# Altium integrated library Analog Devices Data Converters Analog-to-Digital Converters.IntLib: 2404 symbols (part 228 of 346)
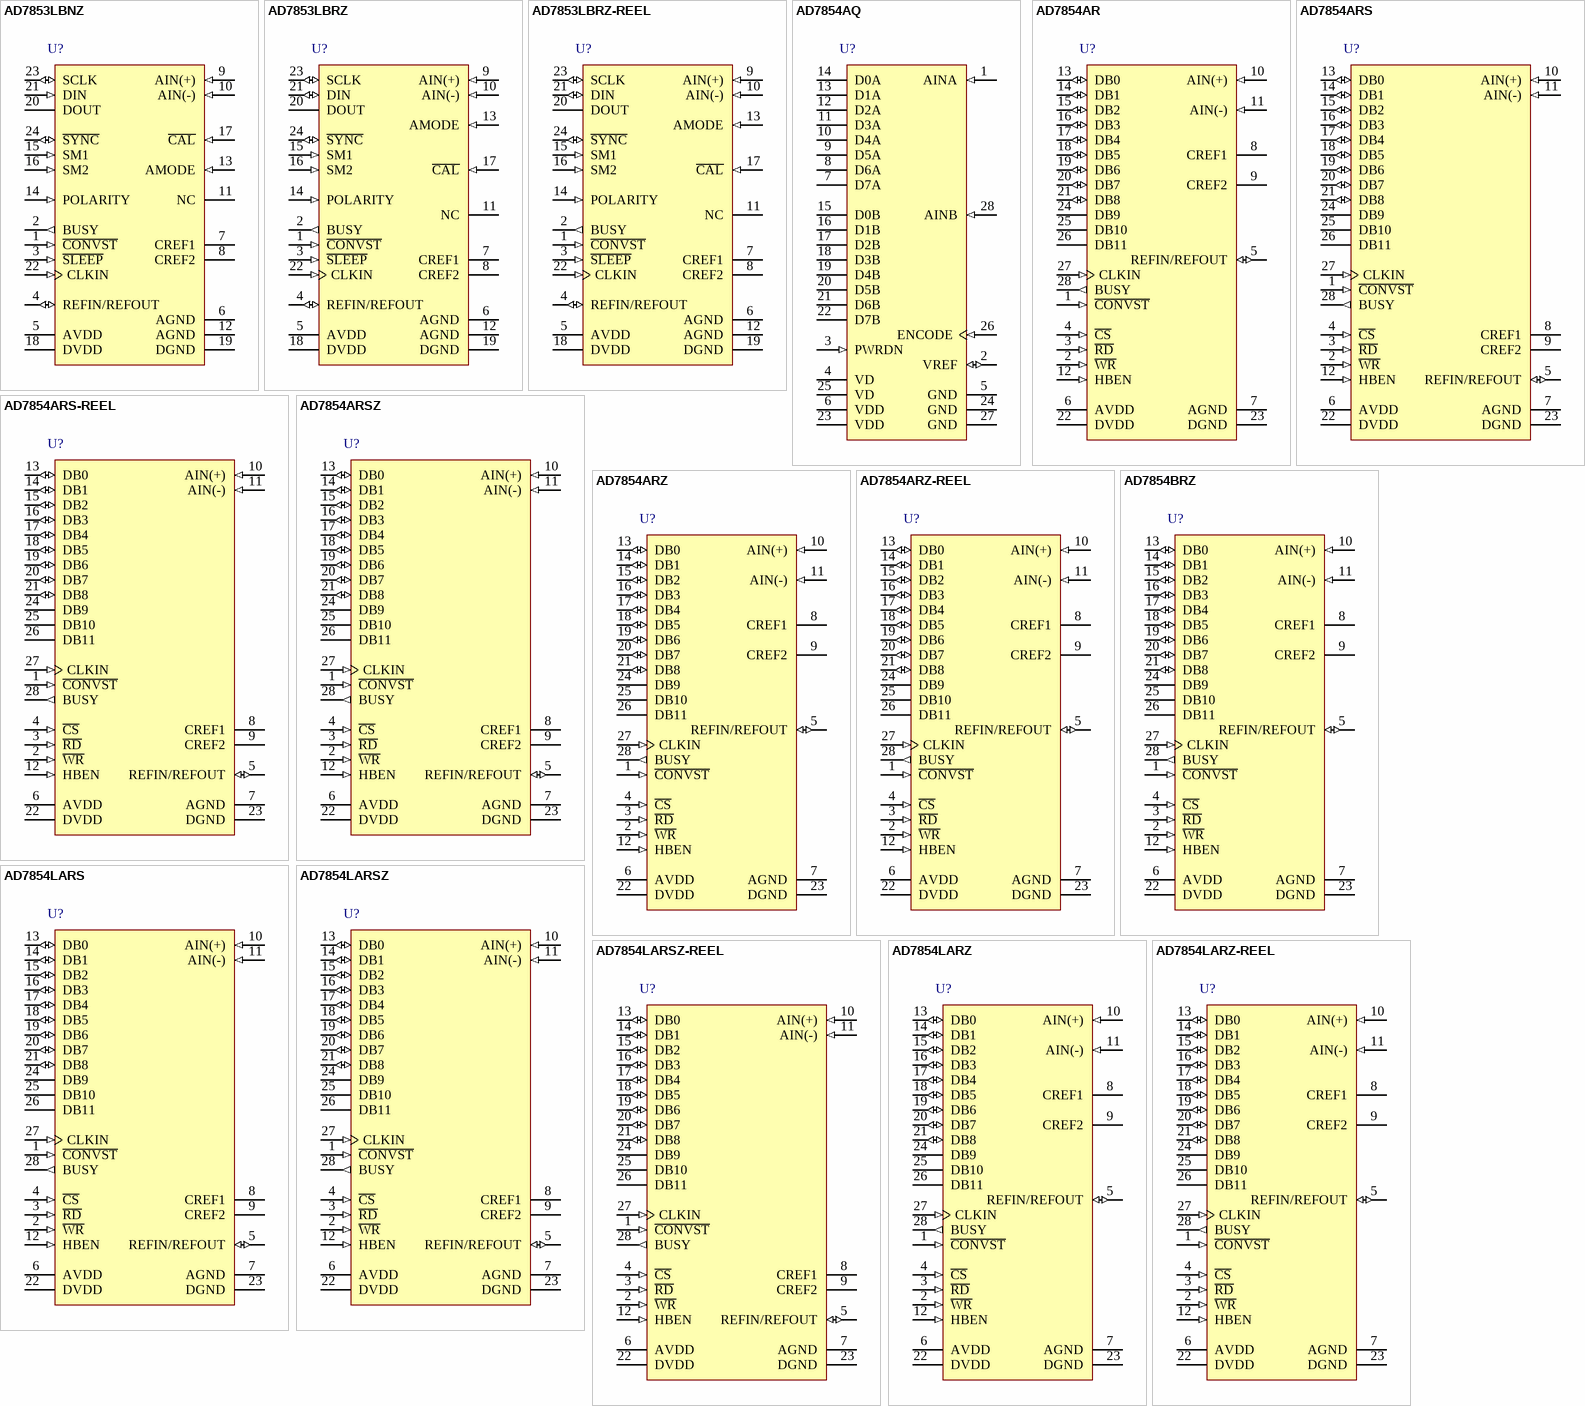
[diagram p277: symbols AD7853LBNZ to AD7854LARZ-REEL]

## AD7853LBNZ
designator U?
Single 12-Bit Sampling Analog-to-Digital Converter with Serial, SPI Interface, Single Supply, 3 to 5.5 V, 100KSPS, 0 to +70 degC, N-24-1, Pb-Free, Tube; Generic Part Number: AD7853L; Manufacturer: Analog Devices; PartNumber: AD7853LBNZ; Resolution (Bits): 12; Channels: 1; Throughput Rate (SPS): 100K; Interface: Ser, SPI; DatasheetVersion: Rev.B; PackageVersion: 071006-A; PackageReference: N-24-1; PackageDescription: 24-Lead Plastic Dual In-Line Package [PDIP] Narrow Body; Supplier 1: Digi-Key; Supplier Part Number 1: AD7853LBNZ-ND; Supplier 2: Mouser; Supplier Part Number 2: 584-AD7853LBNZ; RoHS: Y; Packing: Tube; Mounting Technology: Through-hole; Code_JEDEC: MS-001; ComponentLink1Description: Manufacturer URL; ComponentLink1URL: http://www.analog.com/en/index.html; ComponentLink2Description: Datasheet; ComponentLink2URL: http://www.analog.com/static/imported-files/data_sheets/AD7853_7853L.pdf; ComponentLink3Description: Package Specification; ComponentLink3URL: http://www.analog.com/static/imported-files/packages/50726455539629N_24_1.pdf; ComponentLink4Description: Product URL; ComponentLink4URL: http://www.analog.com/en/analog-to-digital-converters/ad-converters/ad7853/products/product.html
footprint N-24-1 (DIP, 24-Leads, Row Spacing 7.62mm, Pitch 2.54mm, Body 31.9x6.6mm)
pins: 1 ~{CONVST} (in) "Convert Start. Logic Input. A low to high transition on this input puts the track/hold into its hold mode and starts conversion. When this input is not used, it should be tied to DVDD.", 2 BUSY (out) "Busy Output. The busy output is triggered high by the falling edge of C\O\N\V\S\T\ or rising edge of C\A\L\, and remains high until conversion is completed. BUSY is also used to indicate when the AD7853/AD7853L has completed (See Datasheet)", 3 ~{SLEEP} (in) "Sleep Input/Low Power Mode. A Logic 0 initiates a sleep and all circuitry is powered down including the internal voltage reference provided there is no conversion or calibration being performed. Calibration data is retained. (See Datasheet)", 4 REFIN/REFOUT (io) "Reference Input/Output. This pin is connected to the internal reference through a series resistor and is the reference source for the analog-to-digital converter. The nominal reference voltage is 2.5 V and this appears at (See Datasheet)", 5 AVDD (power) "Analog Positive Supply Voltage, +3.0 V to +5.5 V.", 6 AGND (power) "Analog Ground. Ground reference for track/hold, reference and DAC.", 7 CREF1 "Reference Capacitor (0.1 uF multilayer ceramic). This external capacitor is used as a charge source for the internal DAC. The capacitor should be tied between the pin and AGND.", 8 CREF2 "Reference Capacitor (0.01 uF ceramic disc). This external capacitor is used in conjunction with the on-chip reference. The capacitor should be tied between the pin and AGND.", 9 AIN(+) (in) "Analog Input. Positive input of the pseudo-differential analog input. Cannot go below AGND or above AVDD at any time, and cannot go below AIN(-) when the unipolar input range is selected.", 10 AIN(-) (in) "Analog Input. Negative input of the pseudo-differential analog input. Cannot go below AGND or above AVDD at any time.", 11 NC "No Connect Pin.", 12 AGND (power) "Analog Ground. Ground reference for track/hold, reference and DAC.", 13 AMODE (in) "Analog Mode Pin. This pin allows two different analog input ranges to be selected. A Logic 0 selects range 0 to VREF (i.e., AIN(+) - AIN(-) = 0 to VREF). In this case AIN(+) cannot go below AIN(-) and AIN(-) cannot go below (See Datasheet)", 14 POLARITY (in) "Serial Clock Polarity. This pin determines the active edge of the serial clock (SCLK). Toggling this pin will reverse the active edge of the serial clock (SCLK). A Logic 1 means that the serial clock (SCLK) idles high and a (See Datasheet)", 15 SM1 (in) "Serial Mode Select Pin. This pin is used in conjunction with the SM2 pin to give different modes of operation as described in Table X.", 16 SM2 (in) "Serial Mode Select Pin. This pin is used in conjunction with the SM1 pin to give different modes of operation as described in Table X.", 17 ~{CAL} (in) "Calibration Input. This pin has an internal pull-up current source of 0.15 mA. A Logic 0 on this pin resets all calibration control logic and initiates a calibration on its rising edge. There is the option of connecting a 10 (See Datasheet)", 18 DVDD (power) "Digital Supply Voltage, +3.0 V to +5.5 V.", 19 DGND (power) "Digital Ground. Ground reference point for digital circuitry.", 20 DOUT (hiz) "Serial Data Output. The data output is supplied to this pin as a 16-bit serial word.", 21 DIN (in) "Serial Data Input. The data to be written is applied to this pin in serial form (16-bit word). This pin can act as an input pin or as a I/O pin depending on the serial interface mode the part is in (see Table X).", 22 CLKIN (in) "Master Clock Signal for the device (4 MHz for AD7853, 1.8 MHz for AD7853L). Sets the conversion and calibration times.", 23 SCLK (io) "Serial Port Clock. Logic input/output. The SCLK pin is configured as an input or output, dependent on the type of serial data transmission (self-clocking or external-clocking) that has been selected by the SM1 and SM2 pins. (See Datasheet)", 24 ~{SYNC} (io) "This pin can be an input level triggered active low (similar to a chip select in one case and to a frame sync in the other) or an output (similar to a frame sync) pin depending on SM1, SM2 (see Table X)."

## AD7853LBRZ
designator U?
Single 12-Bit Sampling Analog-to-Digital Converter with Serial, SPI Interface, Single Supply, 3 to 5.5 V, 100KSPS, 0 to +70 degC, RW-24, Pb-Free, Tube; Generic Part Number: AD7853L; Manufacturer: Analog Devices; PartNumber: AD7853LBRZ; Resolution (Bits): 12; Channels: 1; Throughput Rate (SPS): 100K; Interface: Ser, SPI; DatasheetVersion: Rev.B; PackageVersion: 060706-A; PackageReference: RW-24; PackageDescription: 24-Lead Standard Small Outline Package [SOIC_W]; Supplier 1: Digi-Key; Supplier Part Number 1: AD7853LBRZ-ND; RoHS: Y; Packing: Tube; Mounting Technology: Surface Mount; Code_JEDEC: MS-013-AD; ComponentLink1Description: Manufacturer URL; ComponentLink1URL: http://www.analog.com/en/index.html; ComponentLink2Description: Datasheet; ComponentLink2URL: http://www.analog.com/static/imported-files/data_sheets/AD7853_7853L.pdf; ComponentLink3Description: Package Specification; ComponentLink3URL: http://www.analog.com/static/imported-files/packages/33665150946139RW_24.pdf; ComponentLink4Description: Product URL; ComponentLink4URL: http://www.analog.com/en/analog-to-digital-converters/ad-converters/ad7853/products/product.html
footprint RW-24_N (SOIC, 24-Leads, Body 15.4x7.5mm, Pitch 1.27mm, IPC Medium Density)
footprint RW-24_L (SOIC, 24-Leads, Body 15.4x7.5mm, Pitch 1.27mm, IPC High Density)
footprint RW-24_M (SOIC, 24-Leads, Body 15.4x7.5mm, Pitch 1.27mm, IPC Low Density)
pins: 1 ~{CONVST} (in) "Convert Start. Logic Input. A low to high transition on this input puts the track/hold into its hold mode and starts conversion. When this input is not used, it should be tied to DVDD.", 2 BUSY (out) "Busy Output. The busy output is triggered high by the falling edge of C\O\N\V\S\T\ or rising edge of C\A\L\, and remains high until conversion is completed. BUSY is also used to indicate when the AD7853/AD7853L has completed (See Datasheet)", 3 ~{SLEEP} (in) "Sleep Input/Low Power Mode. A Logic 0 initiates a sleep and all circuitry is powered down including the internal voltage reference provided there is no conversion or calibration being performed. Calibration data is retained. (See Datasheet)", 4 REFIN/REFOUT (io) "Reference Input/Output. This pin is connected to the internal reference through a series resistor and is the reference source for the analog-to-digital converter. The nominal reference voltage is 2.5 V and this appears at (See Datasheet)", 5 AVDD (power) "Analog Positive Supply Voltage, +3.0 V to +5.5 V.", 6 AGND (power) "Analog Ground. Ground reference for track/hold, reference and DAC.", 7 CREF1 "Reference Capacitor (0.1 uF multilayer ceramic). This external capacitor is used as a charge source for the internal DAC. The capacitor should be tied between the pin and AGND.", 8 CREF2 "Reference Capacitor (0.01 uF ceramic disc). This external capacitor is used in conjunction with the on-chip reference. The capacitor should be tied between the pin and AGND.", 9 AIN(+) (in) "Analog Input. Positive input of the pseudo-differential analog input. Cannot go below AGND or above AVDD at any time, and cannot go below AIN(-) when the unipolar input range is selected.", 10 AIN(-) (in) "Analog Input. Negative input of the pseudo-differential analog input. Cannot go below AGND or above AVDD at any time.", 11 NC "No Connect Pin.", 12 AGND (power) "Analog Ground. Ground reference for track/hold, reference and DAC.", 13 AMODE (in) "Analog Mode Pin. This pin allows two different analog input ranges to be selected. A Logic 0 selects range 0 to VREF (i.e., AIN(+) - AIN(-) = 0 to VREF). In this case AIN(+) cannot go below AIN(-) and AIN(-) cannot go below (See Datasheet)", 14 POLARITY (in) "Serial Clock Polarity. This pin determines the active edge of the serial clock (SCLK). Toggling this pin will reverse the active edge of the serial clock (SCLK). A Logic 1 means that the serial clock (SCLK) idles high and a (See Datasheet)", 15 SM1 (in) "Serial Mode Select Pin. This pin is used in conjunction with the SM2 pin to give different modes of operation as described in Table X.", 16 SM2 (in) "Serial Mode Select Pin. This pin is used in conjunction with the SM1 pin to give different modes of operation as described in Table X.", 17 ~{CAL} (in) "Calibration Input. This pin has an internal pull-up current source of 0.15 uA. A Logic 0 on this pin resets all calibration control logic and initiates a calibration on its rising edge. There is the option of connecting a 10 (See Datasheet)", 18 DVDD (power) "Digital Supply Voltage, +3.0 V to +5.5 V.", 19 DGND (power) "Digital Ground. Ground reference point for digital circuitry.", 20 DOUT (hiz) "Serial Data Output. The data output is supplied to this pin as a 16-bit serial word.", 21 DIN (io) "Serial Data Input. The data to be written is applied to this pin in serial form (16-bit word). This pin can act as an input pin or as a I/O pin depending on the serial interface mode the part is in (see Table X).", 22 CLKIN (in) "Master Clock Signal for the device (4 MHz for AD7853, 1.8 MHz for AD7853L). Sets the conversion and calibration times.", 23 SCLK (io) "Serial Port Clock. Logic input/output. The SCLK pin is configured as an input or output, dependent on the type of serial data transmission (self-clocking or external-clocking) that has been selected by the SM1 and SM2 pins. (See Datasheet)", 24 ~{SYNC} (io) "This pin can be an input level triggered active low (similar to a chip select in one case and to a frame sync in the other) or an output (similar to a frame sync) pin depending on SM1, SM2 (see Table X)."

## AD7853LBRZ-REEL
designator U?
Single 12-Bit Sampling Analog-to-Digital Converter with Serial, SPI Interface, Single Supply, 3 to 5.5 V, 100KSPS, 0 to +70 degC, RW-24, Pb-Free, Reel; Generic Part Number: AD7853L; Manufacturer: Analog Devices; PartNumber: AD7853LBRZ-REEL; Resolution (Bits): 12; Channels: 1; Throughput Rate (SPS): 100K; Interface: Ser, SPI; DatasheetVersion: Rev.B; PackageVersion: 060706-A; PackageReference: RW-24; PackageDescription: 24-Lead Standard Small Outline Package [SOIC_W]; Supplier 1: Digi-Key; Supplier Part Number 1: AD7853LBRZ-REELTR-ND; Supplier 2: Digi-Key; Supplier Part Number 2: AD7853LBRZ-REELCT-ND; Supplier 3: Digi-Key; Supplier Part Number 3: AD7853LBRZ-REELDKR-ND; Supplier 4: Mouser; Supplier Part Number 4: 584-AD7853LBRZ-R; RoHS: Y; Packing: Reel; Mounting Technology: Surface Mount; Code_JEDEC: MS-013-AD; ComponentLink1Description: Manufacturer URL; ComponentLink1URL: http://www.analog.com/en/index.html; ComponentLink2Description: Datasheet; ComponentLink2URL: http://www.analog.com/static/imported-files/data_sheets/AD7853_7853L.pdf; ComponentLink3Description: Package Specification; ComponentLink3URL: http://www.analog.com/static/imported-files/packages/33665150946139RW_24.pdf; ComponentLink4Description: Product URL; ComponentLink4URL: http://www.analog.com/en/analog-to-digital-converters/ad-converters/ad7853/products/product.html
footprint RW-24_N (SOIC, 24-Leads, Body 15.4x7.5mm, Pitch 1.27mm, IPC Medium Density)
footprint RW-24_L (SOIC, 24-Leads, Body 15.4x7.5mm, Pitch 1.27mm, IPC High Density)
footprint RW-24_M (SOIC, 24-Leads, Body 15.4x7.5mm, Pitch 1.27mm, IPC Low Density)
pins: 1 ~{CONVST} (in) "Convert Start. Logic Input. A low to high transition on this input puts the track/hold into its hold mode and starts conversion. When this input is not used, it should be tied to DVDD.", 2 BUSY (out) "Busy Output. The busy output is triggered high by the falling edge of C\O\N\V\S\T\ or rising edge of C\A\L\, and remains high until conversion is completed. BUSY is also used to indicate when the AD7853/AD7853L has completed (See Datasheet)", 3 ~{SLEEP} (in) "Sleep Input/Low Power Mode. A Logic 0 initiates a sleep and all circuitry is powered down including the internal voltage reference provided there is no conversion or calibration being performed. Calibration data is retained. (See Datasheet)", 4 REFIN/REFOUT (io) "Reference Input/Output. This pin is connected to the internal reference through a series resistor and is the reference source for the analog-to-digital converter. The nominal reference voltage is 2.5 V and this appears at (See Datasheet)", 5 AVDD (power) "Analog Positive Supply Voltage, +3.0 V to +5.5 V.", 6 AGND (power) "Analog Ground. Ground reference for track/hold, reference and DAC.", 7 CREF1 "Reference Capacitor (0.1 uF multilayer ceramic). This external capacitor is used as a charge source for the internal DAC. The capacitor should be tied between the pin and AGND.", 8 CREF2 "Reference Capacitor (0.01 uF ceramic disc). This external capacitor is used in conjunction with the on-chip reference. The capacitor should be tied between the pin and AGND.", 9 AIN(+) (in) "Analog Input. Positive input of the pseudo-differential analog input. Cannot go below AGND or above AVDD at any time, and cannot go below AIN(-) when the unipolar input range is selected.", 10 AIN(-) (in) "Analog Input. Negative input of the pseudo-differential analog input. Cannot go below AGND or above AVDD at any time.", 11 NC "No Connect Pin.", 12 AGND (power) "Analog Ground. Ground reference for track/hold, reference and DAC.", 13 AMODE (in) "Analog Mode Pin. This pin allows two different analog input ranges to be selected. A Logic 0 selects range 0 to VREF (i.e., AIN(+) - AIN(-) = 0 to VREF). In this case AIN(+) cannot go below AIN(-) and AIN(-) cannot go below (See Datasheet)", 14 POLARITY (in) "Serial Clock Polarity. This pin determines the active edge of the serial clock (SCLK). Toggling this pin will reverse the active edge of the serial clock (SCLK). A Logic 1 means that the serial clock (SCLK) idles high and a (See Datasheet)", 15 SM1 (in) "Serial Mode Select Pin. This pin is used in conjunction with the SM2 pin to give different modes of operation as described in Table X.", 16 SM2 (in) "Serial Mode Select Pin. This pin is used in conjunction with the SM1 pin to give different modes of operation as described in Table X.", 17 ~{CAL} (in) "Calibration Input. This pin has an internal pull-up current source of 0.15 uA. A Logic 0 on this pin resets all calibration control logic and initiates a calibration on its rising edge. There is the option of connecting a 10 (See Datasheet)", 18 DVDD (power) "Digital Supply Voltage, +3.0 V to +5.5 V.", 19 DGND (power) "Digital Ground. Ground reference point for digital circuitry.", 20 DOUT (hiz) "Serial Data Output. The data output is supplied to this pin as a 16-bit serial word.", 21 DIN (io) "Serial Data Input. The data to be written is applied to this pin in serial form (16-bit word). This pin can act as an input pin or as a I/O pin depending on the serial interface mode the part is in (see Table X).", 22 CLKIN (in) "Master Clock Signal for the device (4 MHz for AD7853, 1.8 MHz for AD7853L). Sets the conversion and calibration times.", 23 SCLK (io) "Serial Port Clock. Logic input/output. The SCLK pin is configured as an input or output, dependent on the type of serial data transmission (self-clocking or external-clocking) that has been selected by the SM1 and SM2 pins. (See Datasheet)", 24 ~{SYNC} (io) "This pin can be an input level triggered active low (similar to a chip select in one case and to a frame sync in the other) or an output (similar to a frame sync) pin depending on SM1, SM2 (see Table X)."

## AD7854AQ
designator U?
Single 12-Bit Sampling Analog-to-Digital Converter with Byte, Parallel Interface, Single Supply, 3V to 5 V 200KSPS, -40 to +85 degC, Q-28-2, Tube; Generic Part Number: AD7854-200; Manufacturer: Analog Devices; PartNumber: AD7854AQ; Resolution (Bits): 12; Channels: 1; Throughput Rate (SPS): 200K; DatasheetVersion: Rev.B; PackageVersion: 030106-A; PackageReference: Q-28-2; PackageDescription: 28-Lead Ceramic Dual In-Line Package [CERDIP]; Supplier 1: Digi-Key; Supplier Part Number 1: AD7854AQ-ND; Supplier 2: Newark; Supplier Part Number 2: 16F6533; Supplier 3: Mouser; Supplier Part Number 3: 584-AD7854AQ; Interface: Byte, Par; RoHS: N; Packing: Tube; Mounting Technology: Through-hole; ComponentLink1Description: Manufacturer URL; ComponentLink1URL: http://www.analog.com/en/index.html; ComponentLink2Description: Datasheet; ComponentLink2URL: http://www.analog.com/static/imported-files/data_sheets/AD7854_7854L.pdf; ComponentLink3Description: Package Specification; ComponentLink3URL: http://www.analog.com/static/imported-files/packages/4045339666127361303Q_28_2.pdf; ComponentLink4Description: Product URL; ComponentLink4URL: http://www.analog.com/en/analog-to-digital-converters/ad-converters/ad7854/products/product.html
footprint Q-28-2 (DIP, 28-Leads, Row Spacing 15.24mm, Pitch 2.54mm, Body 37.2x14.1mm)
pins: 1 AINA (in) "Analog Inputs for ADC A and B.", 2 VREF (io) "Internal Voltage Reference (2.5 V Typical); Bypass with 0.1 uF to Ground or Overdrive with External Voltage Reference.", 3 PWRDN (in) "Power-Down Function Select; Logic HIGH for Power-Down Mode (Digital Outputs Go to High-Impedance State).", 4 VD (power) "Analog 5 V Power Supply.", 5 GND (power) "Ground.", 6 VDD (power) "Digital Output Power Supply.Nominally 3 V to 5 V.", 7 D7A (hiz) "Digital Outputs of ADC A.", 8 D6A (hiz) "Digital Outputs of ADC A.", 9 D5A (hiz) "Digital Outputs of ADC A.", 10 D4A (hiz) "Digital Outputs of ADC A.", 11 D3A (hiz) "Digital Outputs of ADC A.", 12 D2A (hiz) "Digital Outputs of ADC A.", 13 D1A (hiz) "Digital Outputs of ADC A.", 14 D0A (hiz) "Digital Outputs of ADC A.", 15 D0B (hiz) "Digital Outputs of ADC B.", 16 D1B (hiz) "Digital Outputs of ADC B.", 17 D2B (hiz) "Digital Outputs of ADC B.", 18 D3B (hiz) "Digital Outputs of ADC B.", 19 D4B (hiz) "Digital Outputs of ADC B.", 20 D5B (hiz) "Digital Outputs of ADC B.", 21 D6B (hiz) "Digital Outputs of ADC B.", 22 D7B (hiz) "Digital Outputs of ADC B.", 23 VDD (power) "Digital Output Power Supply.Nominally 3 V to 5 V.", 24 GND (power) "Ground.", 25 VD (power) "Analog 5 V Power Supply.", 26 ENCODE (in) "Encode Clock for ADCs A and B (ADCs Sample Simultaneously on the Rising Edge of ENCODE).", 27 GND (power) "Ground.", 28 AINB (in) "Analog Inputs for ADC A and B."

## AD7854AR
designator U?
Single 12-Bit Sampling Analog-to-Digital Converter with Byte, Parallel Interface, Single Supply, 3V to 5 V 200KSPS, -40 to +85 degC, RW-28, Tube; Generic Part Number: AD7854-200; Manufacturer: Analog Devices; PartNumber: AD7854AR; Resolution (Bits): 12; Channels: 1; Throughput Rate (SPS): 200K; DatasheetVersion: Rev.B; PackageVersion: 060706-A; PackageReference: RW-28; PackageDescription: 28-Lead Standard Small Outline Package [SOIC_W]; Supplier 1: Digi-Key; Supplier Part Number 1: AD7854AR-ND; Supplier 2: Mouser; Supplier Part Number 2: 584-AD7854AR; Interface: Byte, Par; RoHS: N; Packing: Tube; Mounting Technology: Surface Mount; Code_JEDEC: MS-013-AE; ComponentLink1Description: Manufacturer URL; ComponentLink1URL: http://www.analog.com/en/index.html; ComponentLink2Description: Datasheet; ComponentLink2URL: http://www.analog.com/static/imported-files/data_sheets/AD7854_7854L.pdf; ComponentLink3Description: Package Specification; ComponentLink3URL: http://www.analog.com/static/imported-files/packages/35833120341221RW_28.pdf; ComponentLink4Description: Product URL; ComponentLink4URL: http://www.analog.com/en/analog-to-digital-converters/ad-converters/ad7854/products/product.html
footprint RW-28_N (SOIC, 28-Leads, Body 17.9x7.5mm, Pitch 1.27mm, IPC Medium Density)
footprint RW-28_L (SOIC, 28-Leads, Body 17.9x7.5mm, Pitch 1.27mm, IPC High Density)
footprint RW-28_M (SOIC, 28-Leads, Body 17.9x7.5mm, Pitch 1.27mm, IPC Low Density)
pins: 1 ~{CONVST} (in) "Convert Start. Logic input. A low to high transition on this input puts the track/hold into its hold mode and starts conversion. When this input is not used, it should be tied to DVDD.", 2 ~{WR} (in) "Write Input.  Active low logic input.  Used in conjunction with C\S\ and HBEN to write to internal registers.", 3 ~{RD} (in) "Read Input.  Active low logic input.  Used in conjunction with C\S\ and HBEN to read from internal registers.", 4 ~{CS} (in) "Chip Select Input.  Active low logic input.  The device is selected when this input is active.", 5 REFIN/REFOUT (io) "Reference Input/Output. This pin is connected to the internal reference through a series resistor and is the reference source for the analog-to-digital converter. The nominal reference voltage is 2.5 V and this appears at (See Datasheet)", 6 AVDD (power) "Analog Positive Supply Voltage, +3.0 V to +5.5 V.", 7 AGND (power) "Analog Ground. Ground reference for track/hold, reference and DAC.", 8 CREF1 "Reference Capacitor (0.1 µF  multilayer ceramic). This external capacitor is used as a charge source for the internal DAC. The capacitor should be tied between the pin and AGND.", 9 CREF2 "Reference Capacitor (0.01 µF ceramic disc). This external capacitor is used in conjunction with the on-chip reference. The capacitor should be tied between the pin and AGND.", 10 AIN(+) (in) "Analog Input. Positive input of the pseudo-differential analog input. Cannot go below AGND or above AVDD at any time, and cannot go below AIN(-) when the unipolar input range is selected.", 11 AIN(-) (in) "Analog Input. Negative input of the pseudo-differential analog input. Cannot go below AGND or above AVDD at any time.", 12 HBEN (in) "High Byte Enable Input. The AD7854 operates in byte mode only but outputs 12 bits of data during a read cycle with HBEN low.  When HBEN is high, then the high byte of data that is written to or read from the part is on DB0 (See Datasheet)", 13 DB0 (io) "Data Bits 0. Three state data I/O pins that are controlled by C\S\, R\D\, W\R\ and HBEN.  Data output is straight binary (unipolar mode) or twos complement (bipolar mode).", 14 DB1 (io) "Data Bits 1. Three state data I/O pins that are controlled by C\S\, R\D\, W\R\ and HBEN.  Data output is straight binary (unipolar mode) or twos complement (bipolar mode).", 15 DB2 (io) "Data Bits 2. Three state data I/O pins that are controlled by C\S\, R\D\, W\R\ and HBEN.  Data output is straight binary (unipolar mode) or twos complement (bipolar mode).", 16 DB3 (io) "Data Bits 3. Three state data I/O pins that are controlled by C\S\, R\D\, W\R\ and HBEN.  Data output is straight binary (unipolar mode) or twos complement (bipolar mode).", 17 DB4 (io) "Data Bits 4. Three state data I/O pins that are controlled by C\S\, R\D\, W\R\ and HBEN.  Data output is straight binary (unipolar mode) or twos complement (bipolar mode).", 18 DB5 (io) "Data Bits 5. Three state data I/O pins that are controlled by C\S\, R\D\, W\R\ and HBEN.  Data output is straight binary (unipolar mode) or twos complement (bipolar mode).", 19 DB6 (io) "Data Bits 6. Three state data I/O pins that are controlled by C\S\, R\D\, W\R\ and HBEN.  Data output is straight binary (unipolar mode) or twos complement (bipolar mode).", 20 DB7 (io) "Data Bits 7. Three state data I/O pins that are controlled by C\S\, R\D\, W\R\ and HBEN.  Data output is straight binary (unipolar mode) or twos complement (bipolar mode).", 21 DB8 (io) "Data Bits 8. Three state data I/O pins that are controlled by C\S\, R\D\, W\R\ and HBEN.  Data output is straight binary (unipolar mode) or twos complement (bipolar mode).", 22 DVDD (power) "Digital Supply Voltage, +3.0 V to +5.5 V.", 23 DGND (power) "Digital Ground. Ground reference point for digital circuitry.", 24 DB9 (hiz) "Data Bits 9. Three state data output pins that are controlled by C\S\, R\D\ and HBEN.  Data output is straight binary (unipolar mode) or twos complement (bipolar mode). These output pins should be tied to DVDD via 100 k ohm (See Datasheet)", 25 DB10 (hiz) "Data Bits 10. Three state data output pins that are controlled by C\S\, R\D\ and HBEN.  Data output is straight binary (unipolar mode) or twos complement (bipolar mode). These output pins should be tied to DVDD via 100 k ohm (See Datasheet)", 26 DB11 (hiz) "Data Bits 11. Three state data output pins that are controlled by C\S\, R\D\ and HBEN.  Data output is straight binary (unipolar mode) or twos complement (bipolar mode). These output pins should be tied to DVDD via 100 k ohm (See Datasheet)", 27 CLKIN (in) "Master Clock Signal for the device (4 MHz for AD7854, 1.8 MHz for AD7854L). Sets the conversion and calibration times.", 28 BUSY (out) "Busy Output. The busy output is triggered high by the falling edge of C\O\N\V\S\T\ and remains high until conversion is completed. BUSY is also used to indicate when the AD7854/AD7854L has completed its onchip calibration (See Datasheet)"

## AD7854ARS
designator U?
Single 12-Bit Sampling Analog-to-Digital Converter with Byte, Parallel Interface, Single Supply, 3V to 5 V 200KSPS, -40 to +85 degC, RS-28, Tube; Generic Part Number: AD7854-200; Manufacturer: Analog Devices; PartNumber: AD7854ARS; Resolution (Bits): 12; Channels: 1; Throughput Rate (SPS): 200K; DatasheetVersion: Rev.B; PackageVersion: 060106-A; PackageReference: RS-28; PackageDescription: 28-Lead Shrink Small Outline Package [SSOP]; Supplier 1: Digi-Key; Supplier Part Number 1: AD7854ARS-ND; Supplier 2: Mouser; Supplier Part Number 2: 584-AD7854ARS; Interface: Byte, Par; RoHS: N; Packing: Tube; Mounting Technology: Surface Mount; Code_JEDEC: MO-150-AH; ComponentLink1Description: Manufacturer URL; ComponentLink1URL: http://www.analog.com/en/index.html; ComponentLink2Description: Datasheet; ComponentLink2URL: http://www.analog.com/static/imported-files/data_sheets/AD7854_7854L.pdf; ComponentLink3Description: Package Specification; ComponentLink3URL: http://www.analog.com/static/imported-files/packages/32122249223724RS_28.pdf; ComponentLink4Description: Product URL; ComponentLink4URL: http://www.analog.com/en/analog-to-digital-converters/ad-converters/ad7854/products/product.html
footprint RS-28_N (SOP, 28-Leads, Body 10.2x5.3mm, Pitch 0.65mm, IPC Medium Density)
footprint RS-28_L (SOP, 28-Leads, Body 10.2x5.3mm, Pitch 0.65mm, IPC High Density)
footprint RS-28_M (SOP, 28-Leads, Body 10.2x5.3mm, Pitch 0.65mm, IPC Low Density)
pins: 1 ~{CONVST} (in) "Convert Start. Logic input. A low to high transition on this input puts the track/hold into its hold mode and starts conversion. When this input is not used, it should be tied to DVDD.", 2 ~{WR} (in) "Write Input.  Active low logic input.  Used in conjunction with C\S\ and HBEN to write to internal registers.", 3 ~{RD} (in) "Read Input.  Active low logic input.  Used in conjunction with C\S\ and HBEN to read from internal registers.", 4 ~{CS} (in) "Chip Select Input.  Active low logic input.  The device is selected when this input is active.", 5 REFIN/REFOUT (io) "Reference Input/Output. This pin is connected to the internal reference through a series resistor and is the reference source for the analog-to-digital converter. The nominal reference voltage is 2.5 V and this appears at (See Datasheet)", 6 AVDD (power) "Analog Positive Supply Voltage, +3.0 V to +5.5 V.", 7 AGND (power) "Analog Ground. Ground reference for track/hold, reference and DAC.", 8 CREF1 "Reference Capacitor (0.1 uF  multilayer ceramic). This external capacitor is used as a charge source for the internal DAC. The capacitor should be tied between the pin and AGND.", 9 CREF2 "Reference Capacitor (0.01 uF ceramic disc). This external capacitor is used in conjunction with the on-chip reference. The capacitor should be tied between the pin and AGND.", 10 AIN(+) (in) "Analog Input. Positive input of the pseudo-differential analog input. Cannot go below AGND or above AVDD at any time, and cannot go below AIN(-) when the unipolar input range is selected.", 11 AIN(-) (in) "Analog Input. Negative input of the pseudo-differential analog input. Cannot go below AGND or above AVDD at any time.", 12 HBEN (in) "High Byte Enable Input. The AD7854 operates in byte mode only but outputs 12 bits of data during a read cycle with HBEN low.  When HBEN is high, then the high byte of data that is written to or read from the part is on DB0 (See Datasheet)", 13 DB0 (io) "Data Bits 0. Three state data I/O pins that are controlled by C\S\, R\D\, W\R\ and HBEN.  Data output is straight binary (unipolar mode) or twos complement (bipolar mode).", 14 DB1 (io) "Data Bits 1. Three state data I/O pins that are controlled by C\S\, R\D\, W\R\ and HBEN.  Data output is straight binary (unipolar mode) or twos complement (bipolar mode).", 15 DB2 (io) "Data Bits 2. Three state data I/O pins that are controlled by C\S\, R\D\, W\R\ and HBEN.  Data output is straight binary (unipolar mode) or twos complement (bipolar mode).", 16 DB3 (io) "Data Bits 3. Three state data I/O pins that are controlled by C\S\, R\D\, W\R\ and HBEN.  Data output is straight binary (unipolar mode) or twos complement (bipolar mode).", 17 DB4 (io) "Data Bits 4. Three state data I/O pins that are controlled by C\S\, R\D\, W\R\ and HBEN.  Data output is straight binary (unipolar mode) or twos complement (bipolar mode).", 18 DB5 (io) "Data Bits 5. Three state data I/O pins that are controlled by C\S\, R\D\, W\R\ and HBEN.  Data output is straight binary (unipolar mode) or twos complement (bipolar mode).", 19 DB6 (io) "Data Bits 6. Three state data I/O pins that are controlled by C\S\, R\D\, W\R\ and HBEN.  Data output is straight binary (unipolar mode) or twos complement (bipolar mode).", 20 DB7 (io) "Data Bits 7. Three state data I/O pins that are controlled by C\S\, R\D\, W\R\ and HBEN.  Data output is straight binary (unipolar mode) or twos complement (bipolar mode).", 21 DB8 (io) "Data Bits 8. Three state data I/O pins that are controlled by C\S\, R\D\, W\R\ and HBEN.  Data output is straight binary (unipolar mode) or twos complement (bipolar mode).", 22 DVDD (power) "Digital Supply Voltage, +3.0 V to +5.5 V.", 23 DGND (power) "Digital Ground. Ground reference point for digital circuitry.", 24 DB9 (hiz) "Data Bits 9. Three state data output pins that are controlled by C\S\, R\D\ and HBEN.  Data output is straight binary (unipolar mode) or twos complement (bipolar mode). These output pins should be tied to DVDD via 100 k ohm (See Datasheet)", 25 DB10 (hiz) "Data Bits 10. Three state data output pins that are controlled by C\S\, R\D\ and HBEN.  Data output is straight binary (unipolar mode) or twos complement (bipolar mode). These output pins should be tied to DVDD via 100 k ohm (See Datasheet)", 26 DB11 (hiz) "Data Bits 11. Three state data output pins that are controlled by C\S\, R\D\ and HBEN.  Data output is straight binary (unipolar mode) or twos complement (bipolar mode). These output pins should be tied to DVDD via 100 k ohm (See Datasheet)", 27 CLKIN (in) "Master Clock Signal for the device (4 MHz for AD7854, 1.8 MHz for AD7854L). Sets the conversion and calibration times.", 28 BUSY (out) "Busy Output. The busy output is triggered high by the falling edge of C\O\N\V\S\T\ and remains high until conversion is completed. BUSY is also used to indicate when the AD7854/AD7854L has completed its onchip calibration (See Datasheet)"

## AD7854ARS-REEL
designator U?
Single 12-Bit Sampling Analog-to-Digital Converter with Byte, Parallel Interface, Single Supply, 3V to 5 V 200KSPS, -40 to +85 degC, RS-28, Reel; Generic Part Number: AD7854-200; Manufacturer: Analog Devices; PartNumber: AD7854ARS-REEL; Resolution (Bits): 12; Channels: 1; Throughput Rate (SPS): 200K; DatasheetVersion: Rev.B; PackageVersion: 060106-A; PackageReference: RS-28; PackageDescription: 28-Lead Shrink Small Outline Package [SSOP]; Supplier 1: Digi-Key; Supplier Part Number 1: AD7854ARS-REEL-ND; Supplier 2: Mouser; Supplier Part Number 2: 584-AD7854ARS-R; Interface: Byte, Par; RoHS: N; Packing: Reel; Mounting Technology: Surface Mount; Code_JEDEC: MO-150-AH; ComponentLink1Description: Manufacturer URL; ComponentLink1URL: http://www.analog.com/en/index.html; ComponentLink2Description: Datasheet; ComponentLink2URL: http://www.analog.com/static/imported-files/data_sheets/AD7854_7854L.pdf; ComponentLink3Description: Package Specification; ComponentLink3URL: http://www.analog.com/static/imported-files/packages/32122249223724RS_28.pdf; ComponentLink4Description: Product URL; ComponentLink4URL: http://www.analog.com/en/analog-to-digital-converters/ad-converters/ad7854/products/product.html
footprint RS-28_N (SOP, 28-Leads, Body 10.2x5.3mm, Pitch 0.65mm, IPC Medium Density)
footprint RS-28_L (SOP, 28-Leads, Body 10.2x5.3mm, Pitch 0.65mm, IPC High Density)
footprint RS-28_M (SOP, 28-Leads, Body 10.2x5.3mm, Pitch 0.65mm, IPC Low Density)
pins: 1 ~{CONVST} (in) "Convert Start. Logic input. A low to high transition on this input puts the track/hold into its hold mode and starts conversion. When this input is not used, it should be tied to DVDD.", 2 ~{WR} (in) "Write Input.  Active low logic input.  Used in conjunction with C\S\ and HBEN to write to internal registers.", 3 ~{RD} (in) "Read Input.  Active low logic input.  Used in conjunction with C\S\ and HBEN to read from internal registers.", 4 ~{CS} (in) "Chip Select Input.  Active low logic input.  The device is selected when this input is active.", 5 REFIN/REFOUT (io) "Reference Input/Output. This pin is connected to the internal reference through a series resistor and is the reference source for the analog-to-digital converter. The nominal reference voltage is 2.5 V and this appears at (See Datasheet)", 6 AVDD (power) "Analog Positive Supply Voltage, +3.0 V to +5.5 V.", 7 AGND (power) "Analog Ground. Ground reference for track/hold, reference and DAC.", 8 CREF1 "Reference Capacitor (0.1 uF  multilayer ceramic). This external capacitor is used as a charge source for the internal DAC. The capacitor should be tied between the pin and AGND.", 9 CREF2 "Reference Capacitor (0.01 uF ceramic disc). This external capacitor is used in conjunction with the on-chip reference. The capacitor should be tied between the pin and AGND.", 10 AIN(+) (in) "Analog Input. Positive input of the pseudo-differential analog input. Cannot go below AGND or above AVDD at any time, and cannot go below AIN(-) when the unipolar input range is selected.", 11 AIN(-) (in) "Analog Input. Negative input of the pseudo-differential analog input. Cannot go below AGND or above AVDD at any time.", 12 HBEN (in) "High Byte Enable Input. The AD7854 operates in byte mode only but outputs 12 bits of data during a read cycle with HBEN low.  When HBEN is high, then the high byte of data that is written to or read from the part is on DB0 (See Datasheet)", 13 DB0 (io) "Data Bits 0. Three state data I/O pins that are controlled by C\S\, R\D\, W\R\ and HBEN.  Data output is straight binary (unipolar mode) or twos complement (bipolar mode).", 14 DB1 (io) "Data Bits 1. Three state data I/O pins that are controlled by C\S\, R\D\, W\R\ and HBEN.  Data output is straight binary (unipolar mode) or twos complement (bipolar mode).", 15 DB2 (io) "Data Bits 2. Three state data I/O pins that are controlled by C\S\, R\D\, W\R\ and HBEN.  Data output is straight binary (unipolar mode) or twos complement (bipolar mode).", 16 DB3 (io) "Data Bits 3. Three state data I/O pins that are controlled by C\S\, R\D\, W\R\ and HBEN.  Data output is straight binary (unipolar mode) or twos complement (bipolar mode).", 17 DB4 (io) "Data Bits 4. Three state data I/O pins that are controlled by C\S\, R\D\, W\R\ and HBEN.  Data output is straight binary (unipolar mode) or twos complement (bipolar mode).", 18 DB5 (io) "Data Bits 5. Three state data I/O pins that are controlled by C\S\, R\D\, W\R\ and HBEN.  Data output is straight binary (unipolar mode) or twos complement (bipolar mode).", 19 DB6 (io) "Data Bits 6. Three state data I/O pins that are controlled by C\S\, R\D\, W\R\ and HBEN.  Data output is straight binary (unipolar mode) or twos complement (bipolar mode).", 20 DB7 (io) "Data Bits 7. Three state data I/O pins that are controlled by C\S\, R\D\, W\R\ and HBEN.  Data output is straight binary (unipolar mode) or twos complement (bipolar mode).", 21 DB8 (io) "Data Bits 8. Three state data I/O pins that are controlled by C\S\, R\D\, W\R\ and HBEN.  Data output is straight binary (unipolar mode) or twos complement (bipolar mode).", 22 DVDD (power) "Digital Supply Voltage, +3.0 V to +5.5 V.", 23 DGND (power) "Digital Ground. Ground reference point for digital circuitry.", 24 DB9 (hiz) "Data Bits 9. Three state data output pins that are controlled by C\S\, R\D\ and HBEN.  Data output is straight binary (unipolar mode) or twos complement (bipolar mode). These output pins should be tied to DVDD via 100 k ohm (See Datasheet)", 25 DB10 (hiz) "Data Bits 10. Three state data output pins that are controlled by C\S\, R\D\ and HBEN.  Data output is straight binary (unipolar mode) or twos complement (bipolar mode). These output pins should be tied to DVDD via 100 k ohm (See Datasheet)", 26 DB11 (hiz) "Data Bits 11. Three state data output pins that are controlled by C\S\, R\D\ and HBEN.  Data output is straight binary (unipolar mode) or twos complement (bipolar mode). These output pins should be tied to DVDD via 100 k ohm (See Datasheet)", 27 CLKIN (in) "Master Clock Signal for the device (4 MHz for AD7854, 1.8 MHz for AD7854L). Sets the conversion and calibration times.", 28 BUSY (out) "Busy Output. The busy output is triggered high by the falling edge of C\O\N\V\S\T\ and remains high until conversion is completed. BUSY is also used to indicate when the AD7854/AD7854L has completed its onchip calibration (See Datasheet)"

## AD7854ARSZ
designator U?
Single 12-Bit Sampling Analog-to-Digital Converter with Byte, Parallel Interface, Single Supply, 3V to 5 V 200KSPS, -40 to +85 degC, RS-28, Pb-Free, Tube; Generic Part Number: AD7854-200; Manufacturer: Analog Devices; PartNumber: AD7854ARSZ; Resolution (Bits): 12; Channels: 1; Throughput Rate (SPS): 200K; DatasheetVersion: Rev.B; PackageVersion: 060106-A; PackageReference: RS-28; PackageDescription: 28-Lead Shrink Small Outline Package [SSOP]; Supplier 1: Digi-Key; Supplier Part Number 1: AD7854ARSZ-ND; Supplier 2: Mouser; Supplier Part Number 2: 584-AD7854ARSZ; Interface: Byte, Par; RoHS: Y; Packing: Tube; Mounting Technology: Surface Mount; Code_JEDEC: MO-150-AH; ComponentLink1Description: Manufacturer URL; ComponentLink1URL: http://www.analog.com/en/index.html; ComponentLink2Description: Datasheet; ComponentLink2URL: http://www.analog.com/static/imported-files/data_sheets/AD7854_7854L.pdf; ComponentLink3Description: Package Specification; ComponentLink3URL: http://www.analog.com/static/imported-files/packages/32122249223724RS_28.pdf; ComponentLink4Description: Product URL; ComponentLink4URL: http://www.analog.com/en/analog-to-digital-converters/ad-converters/ad7854/products/product.html
footprint RS-28_N (SOP, 28-Leads, Body 10.2x5.3mm, Pitch 0.65mm, IPC Medium Density)
footprint RS-28_L (SOP, 28-Leads, Body 10.2x5.3mm, Pitch 0.65mm, IPC High Density)
footprint RS-28_M (SOP, 28-Leads, Body 10.2x5.3mm, Pitch 0.65mm, IPC Low Density)
pins: 1 ~{CONVST} (in) "Convert Start. Logic input. A low to high transition on this input puts the track/hold into its hold mode and starts conversion. When this input is not used, it should be tied to DVDD.", 2 ~{WR} (in) "Write Input.  Active low logic input.  Used in conjunction with C\S\ and HBEN to write to internal registers.", 3 ~{RD} (in) "Read Input.  Active low logic input.  Used in conjunction with C\S\ and HBEN to read from internal registers.", 4 ~{CS} (in) "Chip Select Input.  Active low logic input.  The device is selected when this input is active.", 5 REFIN/REFOUT (io) "Reference Input/Output. This pin is connected to the internal reference through a series resistor and is the reference source for the analog-to-digital converter. The nominal reference voltage is 2.5 V and this appears at (See Datasheet)", 6 AVDD (power) "Analog Positive Supply Voltage, +3.0 V to +5.5 V.", 7 AGND (power) "Analog Ground. Ground reference for track/hold, reference and DAC.", 8 CREF1 "Reference Capacitor (0.1 uF  multilayer ceramic). This external capacitor is used as a charge source for the internal DAC. The capacitor should be tied between the pin and AGND.", 9 CREF2 "Reference Capacitor (0.01 uF ceramic disc). This external capacitor is used in conjunction with the on-chip reference. The capacitor should be tied between the pin and AGND.", 10 AIN(+) (in) "Analog Input. Positive input of the pseudo-differential analog input. Cannot go below AGND or above AVDD at any time, and cannot go below AIN(-) when the unipolar input range is selected.", 11 AIN(-) (in) "Analog Input. Negative input of the pseudo-differential analog input. Cannot go below AGND or above AVDD at any time.", 12 HBEN (in) "High Byte Enable Input. The AD7854 operates in byte mode only but outputs 12 bits of data during a read cycle with HBEN low.  When HBEN is high, then the high byte of data that is written to or read from the part is on DB0 (See Datasheet)", 13 DB0 (io) "Data Bits 0. Three state data I/O pins that are controlled by C\S\, R\D\, W\R\ and HBEN.  Data output is straight binary (unipolar mode) or twos complement (bipolar mode).", 14 DB1 (io) "Data Bits 1. Three state data I/O pins that are controlled by C\S\, R\D\, W\R\ and HBEN.  Data output is straight binary (unipolar mode) or twos complement (bipolar mode).", 15 DB2 (io) "Data Bits 2. Three state data I/O pins that are controlled by C\S\, R\D\, W\R\ and HBEN.  Data output is straight binary (unipolar mode) or twos complement (bipolar mode).", 16 DB3 (io) "Data Bits 3. Three state data I/O pins that are controlled by C\S\, R\D\, W\R\ and HBEN.  Data output is straight binary (unipolar mode) or twos complement (bipolar mode).", 17 DB4 (io) "Data Bits 4. Three state data I/O pins that are controlled by C\S\, R\D\, W\R\ and HBEN.  Data output is straight binary (unipolar mode) or twos complement (bipolar mode).", 18 DB5 (io) "Data Bits 5. Three state data I/O pins that are controlled by C\S\, R\D\, W\R\ and HBEN.  Data output is straight binary (unipolar mode) or twos complement (bipolar mode).", 19 DB6 (io) "Data Bits 6. Three state data I/O pins that are controlled by C\S\, R\D\, W\R\ and HBEN.  Data output is straight binary (unipolar mode) or twos complement (bipolar mode).", 20 DB7 (io) "Data Bits 7. Three state data I/O pins that are controlled by C\S\, R\D\, W\R\ and HBEN.  Data output is straight binary (unipolar mode) or twos complement (bipolar mode).", 21 DB8 (io) "Data Bits 8. Three state data I/O pins that are controlled by C\S\, R\D\, W\R\ and HBEN.  Data output is straight binary (unipolar mode) or twos complement (bipolar mode).", 22 DVDD (power) "Digital Supply Voltage, +3.0 V to +5.5 V.", 23 DGND (power) "Digital Ground. Ground reference point for digital circuitry.", 24 DB9 (hiz) "Data Bits 9. Three state data output pins that are controlled by C\S\, R\D\ and HBEN.  Data output is straight binary (unipolar mode) or twos complement (bipolar mode). These output pins should be tied to DVDD via 100 k ohm (See Datasheet)", 25 DB10 (hiz) "Data Bits 10. Three state data output pins that are controlled by C\S\, R\D\ and HBEN.  Data output is straight binary (unipolar mode) or twos complement (bipolar mode). These output pins should be tied to DVDD via 100 k ohm (See Datasheet)", 26 DB11 (hiz) "Data Bits 11. Three state data output pins that are controlled by C\S\, R\D\ and HBEN.  Data output is straight binary (unipolar mode) or twos complement (bipolar mode). These output pins should be tied to DVDD via 100 k ohm (See Datasheet)", 27 CLKIN (in) "Master Clock Signal for the device (4 MHz for AD7854, 1.8 MHz for AD7854L). Sets the conversion and calibration times.", 28 BUSY (out) "Busy Output. The busy output is triggered high by the falling edge of C\O\N\V\S\T\ and remains high until conversion is completed. BUSY is also used to indicate when the AD7854/AD7854L has completed its onchip calibration (See Datasheet)"